# Altium integrated library Altium Database Library V2.IntLib: 376 symbols (part 16 of 17)

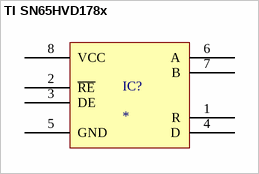
[diagram p345: symbol TI SN65HVD178x]

## TI SN65HVD178x
designator IC?
pins: 1 R, 2 ~{RE}, 3 DE, 4 D, 5 GND, 6 A, 7 B, 8 VCC


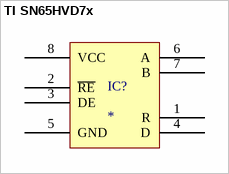
[diagram p346: symbol TI SN65HVD7x]

## TI SN65HVD7x
designator IC?
pins: 1 R, 2 ~{RE}, 3 DE, 4 D, 5 GND, 6 A, 7 B, 8 VCC


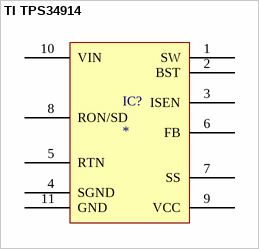
[diagram p347: symbol TI TPS34914]

## TI TPS34914
designator IC?
pins: 1 SW, 2 BST, 3 ISEN, 4 SGND, 5 RTN, 6 FB, 7 SS, 8 RON/SD, 9 VCC, 10 VIN, 11 GND


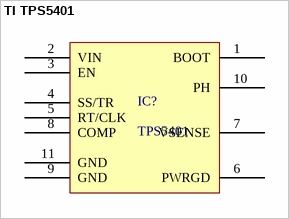
[diagram p348: symbol TI TPS5401]

## TI TPS5401
designator IC?, comment TPS5401
Buck Step Down Regulator with 3.5 to 42 V Input and 0.8 to 39 V Output
pins: 1 BOOT "A bootstrap capacitor is required between BOOT and PH. If the voltage on this capacitor is below the minimum required by the output device, the output is forced to switch off until the capacitor is refreshed.", 2 VIN (power) "Input supply voltage, 3.5 V to 42 V.", 3 EN "Enable pin, internal pullup current source. Pull below 1.2 V to disable. Float to enable. Adjust the input undervoltage lockout with two resistors.", 4 SS/TR "Slow-start and tracking. An external capacitor connected to this pin sets the output rise time. Because the voltage on this pin overrides the internal reference, it can be used for tracking and sequencing.", 5 RT/CLK "Resistor timing and external clock. An internal amplifier holds this pin at a fixed voltage when using an external resistor to ground to set the switching frequency. If the pin is pulled above the PLL upper threshold, a mode (See Datasheet)", 6 PWRGD (oc) "An open-drain output; asserts low if output voltage is low due to thermal shutdown, dropout, overvoltage or EN shutdown.", 7 VSENSE "Inverting node of the transconductance (gm) error amplifier.", 8 COMP "Error amplifier output, and input to the output switch current comparator. Connect frequency compensation components to this pin.", 9 GND (power) "Ground", 10 PH (power) "The source of the internal high-side power MOSFET", 11 GND (power) "GND pin must be electrically connected to the thermal pad on the printed circuit board for proper operation."


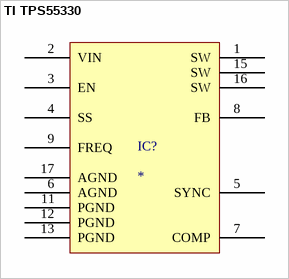
[diagram p349: symbol TI TPS55330]

## TI TPS55330
designator IC?
pins: 1 SW, 2 VIN, 3 EN, 4 SS, 5 SYNC, 6 AGND, 7 COMP, 8 FB, 9 FREQ, 11 PGND, 12 PGND, 13 PGND, 15 SW, 16 SW, 17 AGND


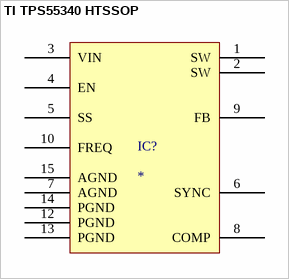
[diagram p350: symbol TI TPS55340 HTSSOP]

## TI TPS55340 HTSSOP
designator IC?
pins: 1 SW, 2 SW, 3 VIN, 4 EN, 5 SS, 6 SYNC, 7 AGND, 8 COMP, 9 FB, 10 FREQ, 12 PGND, 13 PGND, 14 PGND, 15 AGND


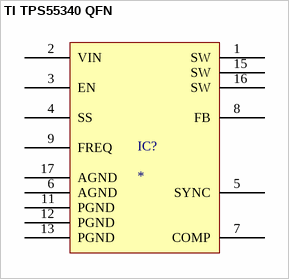
[diagram p351: symbol TI TPS55340 QFN]

## TI TPS55340 QFN
designator IC?
pins: 1 SW, 2 VIN, 3 EN, 4 SS, 5 SYNC, 6 AGND, 7 COMP, 8 FB, 9 FREQ, 11 PGND, 12 PGND, 13 PGND, 15 SW, 16 SW, 17 AGND


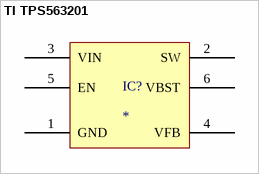
[diagram p352: symbol TI TPS563201]

## TI TPS563201
designator IC?
pins: 1 GND, 2 SW, 3 VIN, 4 VFB, 5 EN, 6 VBST


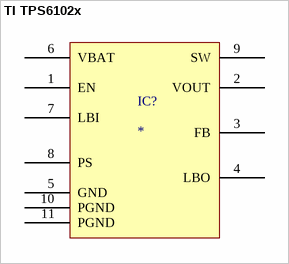
[diagram p353: symbol TI TPS6102x]

## TI TPS6102x
designator IC?
pins: 1 EN, 2 VOUT, 3 FB, 4 LBO, 5 GND, 6 VBAT, 7 LBI, 8 PS, 9 SW, 10 PGND, 11 PGND


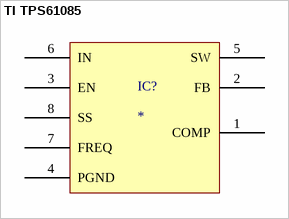
[diagram p354: symbol TI TPS61085]

## TI TPS61085
designator IC?
pins: 1 COMP, 2 FB, 3 EN, 4 PGND, 5 SW, 6 IN, 7 FREQ, 8 SS


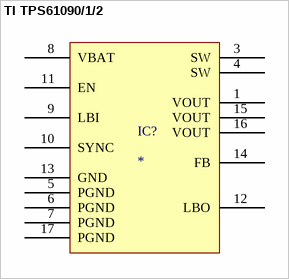
[diagram p355: symbol TI TPS61090/1/2]

## TI TPS61090/1/2
designator IC?
pins: 1 VOUT, 3 SW, 4 SW, 5 PGND, 6 PGND, 7 PGND, 8 VBAT, 9 LBI, 10 SYNC, 11 EN, 12 LBO, 13 GND, 14 FB, 15 VOUT, 16 VOUT, 17 PGND


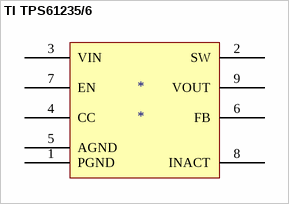
[diagram p356: symbol TI TPS61235/6]

## TI TPS61235/6
designator *
pins: 1 PGND, 2 SW, 3 VIN, 4 CC, 5 AGND, 6 FB, 7 EN, 8 INACT, 9 VOUT


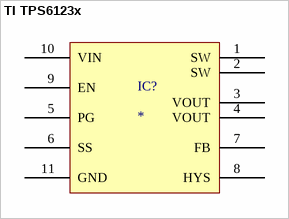
[diagram p357: symbol TI TPS6123x]

## TI TPS6123x
designator IC?
pins: 1 SW, 2 SW, 3 VOUT, 4 VOUT, 5 PG, 6 SS, 7 FB, 8 HYS, 9 EN, 10 VIN, 11 GND


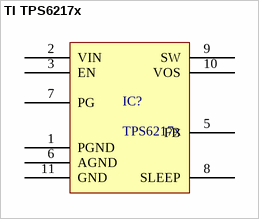
[diagram p358: symbol TI TPS6217x]

## TI TPS6217x
designator IC?, comment TPS6217x
pins: 1 PGND, 2 VIN, 3 EN, 5 FB, 6 AGND, 7 PG, 8 SLEEP, 9 SW, 10 VOS, 11 GND


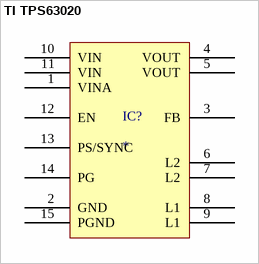
[diagram p359: symbol TI TPS63020]

## TI TPS63020
designator IC?
pins: 1 VINA, 2 GND, 3 FB, 4 VOUT, 5 VOUT, 6 L2, 7 L2, 8 L1, 9 L1, 10 VIN, 11 VIN, 12 EN, 13 PS/SYNC, 14 PG, 15 PGND


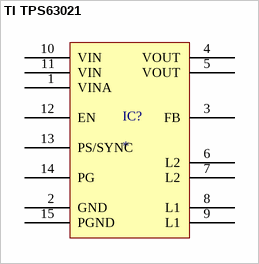
[diagram p360: symbol TI TPS63021]

## TI TPS63021
designator IC?
pins: 1 VINA, 2 GND, 3 FB, 4 VOUT, 5 VOUT, 6 L2, 7 L2, 8 L1, 9 L1, 10 VIN, 11 VIN, 12 EN, 13 PS/SYNC, 14 PG, 15 PGND


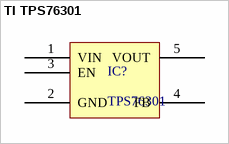
[diagram p361: symbol TI TPS76301]

## TI TPS76301
designator IC?, comment TPS76301
150mA Low-Dropout Regulator
pins: 1 VIN "Desc1", 2 GND "Desc1", 3 EN "Desc1", 4 FB "Desc1", 5 VOUT "Desc1"


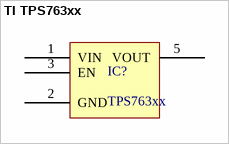
[diagram p362: symbol TI TPS763xx]

## TI TPS763xx
designator IC?, comment TPS763xx
150mA Low-Dropout Regulator
pins: 1 VIN "Desc1", 2 GND "Desc1", 3 EN "Desc1", 5 VOUT "Desc1"


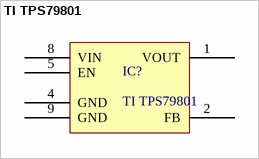
[diagram p363: symbol TI TPS79801]

## TI TPS79801
designator IC?
50 mA, 3 V TO 50 V, MICROPOWER, LOW-DROPOUT LINEAR REGULATOR
pins: 1 VOUT, 2 FB, 4 GND, 5 EN, 8 VIN, 9 GND


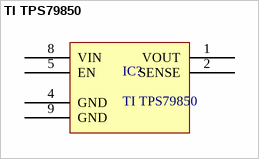
[diagram p364: symbol TI TPS79850]

## TI TPS79850
designator IC?
50 mA, 3 V TO 50 V, MICROPOWER, LOW-DROPOUT LINEAR REGULATOR
pins: 1 VOUT, 2 SENSE, 4 GND, 5 EN, 8 VIN, 9 GND


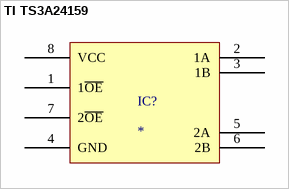
[diagram p365: symbol TI TS3A24159]

## TI TS3A24159
designator IC?
pins: 1 1~{OE}, 2 1A, 3 1B, 4 GND, 5 2A, 6 2B, 7 2~{OE}, 8 VCC


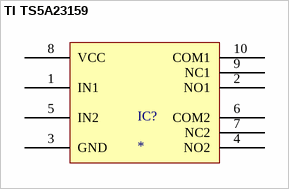
[diagram p366: symbol TI TS5A23159]

## TI TS5A23159
designator IC?
pins: 1 IN1, 2 NO1, 3 GND, 4 NO2, 5 IN2, 6 COM2, 7 NC2, 8 VCC, 9 NC1, 10 COM1


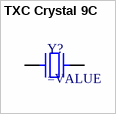
[diagram p367: symbol TXC Crystal 9C]

## TXC Crystal 9C
designator Y?
SMT Crystal
pins: 1, 2
